# Altium schematic symbol library ATECC608.SchLib: 1 symbol
Pins are listed as number, name and electrical type; pins without a type are passive.

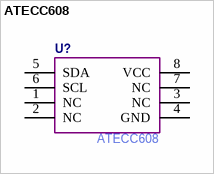
[diagram p0: symbol ATECC608]

## ATECC608
designator U?  Manufacturer Part Number: ATECC608  (hidden comment: *)
pins: 1 NC, 2 NC, 3 NC, 4 GND, 5 SDA, 6 SCL, 7 NC, 8 VCC